# Altium schematic symbol library NCV84140.SchLib: 1 symbol
Pins are listed as number, name and electrical type; pins without a type are passive.

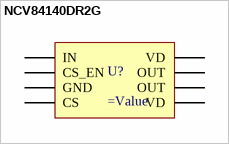
[diagram p0: symbol NCV84140DR2G]

## NCV84140DR2G
designator U?
pins: 1 IN, 10 CS_EN, 11 GND, 12 CS, 13 VD, 14 OUT, 15 OUT, 16 VD